# Altium schematic symbol library Header_TE_Connectivity_826936-2_2POS_5A.SchLib: 1 symbol
Pins are listed as number, name and electrical type; pins without a type are passive.

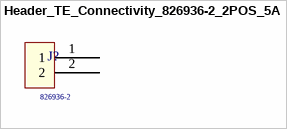
[diagram p0: symbol Header_TE_Connectivity_826936-2_2POS_5A]

## Header_TE_Connectivity_826936-2_2POS_5A
designator J?  Series: 826936-2  (hidden comment: Header_TE_Connectivity_826936-2_2POS_5A)
Headers & Wire Housings 2P SINGLE ROW 5A; Supplier Part Number 1: 571-826936-2; Supplier 1: Mouser
footprint Header_TE_Connectivity_826936-2_2POS_5A
pins: 1, 2